# EAGLE library part CN3085 (library mgvc)
1A Nickel-Metal Hydride Battery Charger IC Контроллер заряда Ni-MH аккумуляторов. Максимальный ток до 1A.
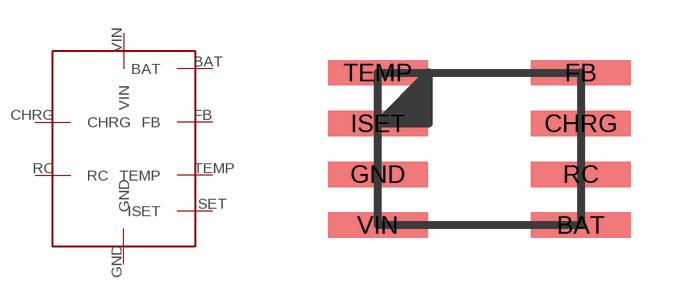
[diagram p4: symbol with the pads of CN3085; footprint CN3085]

Designator prefix -

## CN3085  [CN3085]
BAT  BAT
CHRG  CHRG
FB  FB
GND  GND
ISET  ISET
RC  RC
TEMP  TEMP
VIN  VIN

## Footprint CN3085 (pad centres in mm)
smd 2.5 x 0.635: BAT 5.08,0; CHRG 5.08,2.54; FB 5.08,3.81; GND 0,1.27; ISET 0,2.54; RC 5.08,1.27; TEMP 0,3.81; VIN 0,0